# Altium integrated library 2.54-1_6P.IntLib: 1 symbol
Pins are listed as number, name and electrical type; pins without a type are passive.

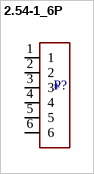
[diagram p0: symbol 2.54-1_6P]

## 2.54-1_6P
designator P?  (value not drawn)
Pin Headers. -40C~+105C 1 1x6P 2.54mm 3.3mm 3A 6P Brass Square Hole Through Hole Top ,P=2.54mm Female Headers ROHS; Manufacturer Part Number: 2.54-1*6P; Manufacturer: BOOMELE(Boom Precision Elec); Component Type: Connectors; Design Item ID: 2.54-1_6P; JLCPCB Part #: C40877; Value: *
footprint 2.54-1_6P (HDR-TH_6P-P2.54-V-F)
pins: 1, 2, 3, 4, 5, 6